# Altium footprint library h1164.PcbLib: 1 footprints
Each footprint in its own frame and in the unit in brackets; x right, y up, seen from the top. Pads: shape width x height; smd on the part's side, far side on the other; paste and mask are expansions set on the pad; w line width, h text height; cw(c..) or ccw(c..) is an arc to the next point about the centre after c.
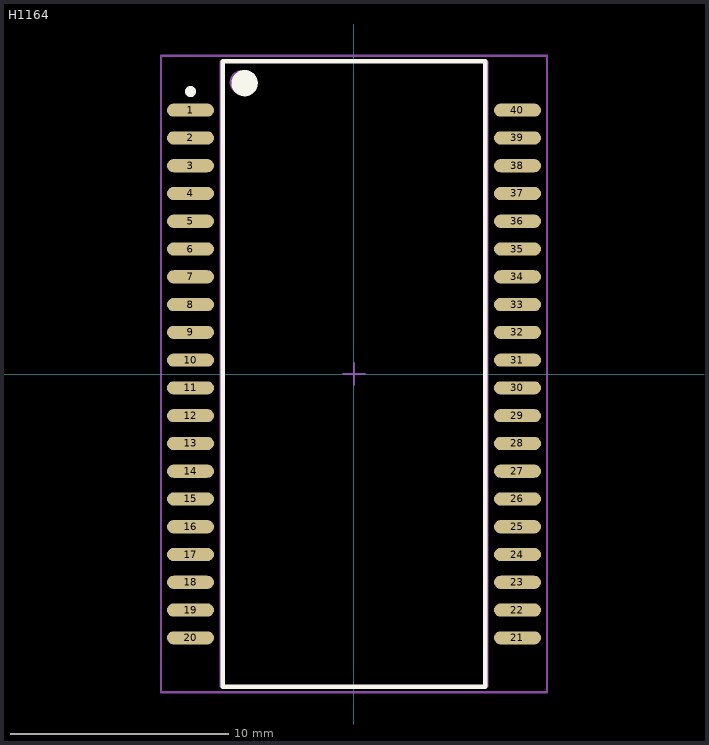
[diagram p0: the footprint, top view; thin cyan lines are the x and y axes]

## H1164 [mm] "SOIC, 40-Leads, Body 28.6x12.2mm (max), Pitch 1.27mm, IPC Medium Density"
height 5.84
pads (40):
  oval 2.15x0.6 smd: 1(-7.475,12.065) 2(-7.475,10.795) 3(-7.475,9.525) 4(-7.475,8.255) 5(-7.475,6.985) 6(-7.475,5.715) 7(-7.475,4.445) 8(-7.475,3.175) 9(-7.475,1.905) 10(-7.475,0.635) 11(-7.475,-0.635) 12(-7.475,-1.905) 13(-7.475,-3.175) 14(-7.475,-4.445) 15(-7.475,-5.715) 16(-7.475,-6.985) 17(-7.475,-8.255) 18(-7.475,-9.525) 19(-7.475,-10.795) 20(-7.475,-12.065) 21(7.475,-12.065) 22(7.475,-10.795) 23(7.475,-9.525) 24(7.475,-8.255) 25(7.475,-6.985) 26(7.475,-5.715) 27(7.475,-4.445) 28(7.475,-3.175) 29(7.475,-1.905) 30(7.475,-0.635) 31(7.475,0.635) 32(7.475,1.905) 33(7.475,3.175) 34(7.475,4.445) 35(7.475,5.715) 36(7.475,6.985) 37(7.475,8.255) 38(7.475,9.525) 39(7.475,10.795) 40(7.475,12.065)
Top Overlay:
  circle w0.6: c-5,13.3 r0.3
  circle w0.25: c-7.475,12.915 r0.125
  lines w0.2: -6,-14.3 6,-14.3 6,14.3 -6,14.3 -6,-14.3
Mechanical 13:
  circle w0.1: c-5.145,13.34 r0.5
  lines w0.1: -6.095,-14.29 6.095,-14.29 6.095,14.29 -6.095,14.29 -6.095,-14.29
Mechanical 15:
  lines w0.1: -0.5,0 0.5,0 ; 0,-0.5 0,0.5 ; -8.825,-14.55 8.825,-14.55 8.825,14.55 -8.825,14.55 -8.825,-14.55
3D body: height 5.84, standoff 0.1, extent -6.095,-14.29 6.095,14.29